# EAGLE library part HARWIN_20PIN_JT (library DSDEagleLibrary)
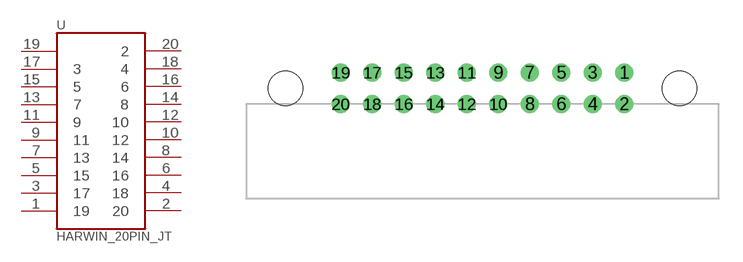
[diagram p24: symbol with the pads of HARWIN_10PIN; footprint HARWIN_10PIN]

Designator prefix -

## HARWIN_20PIN_JT  [HARWIN_10PIN]
1  19
2  20
3  17
4  18
5  15
6  16
7  13
8  14
9  11
10  12
11  9
12  10
13  7
14  8
15  5
16  6
17  3
18  4
19  1
20  2

## Footprint HARWIN_10PIN (pad centres in mm)
drill 0.65: 1 9,1; 2 9,-1; 3 7,1; 4 7,-1; 5 5,1; 6 5,-1; 7 3,1; 8 3,-1; 9 1,1; 10 1,-1; 11 -1,1; 12 -1,-1; 13 -3,1; 14 -3,-1; 15 -5,1; 16 -5,-1; 17 -7,1; 18 -7,-1; 19 -9,1; 20 -9,-1
hole 2.2 at -12.5,0
hole 2.2 at 12.5,0